# Altium schematic symbol library Inductors.SchLib: 11 symbols
Pins are listed as number, name and electrical type; pins without a type are passive.

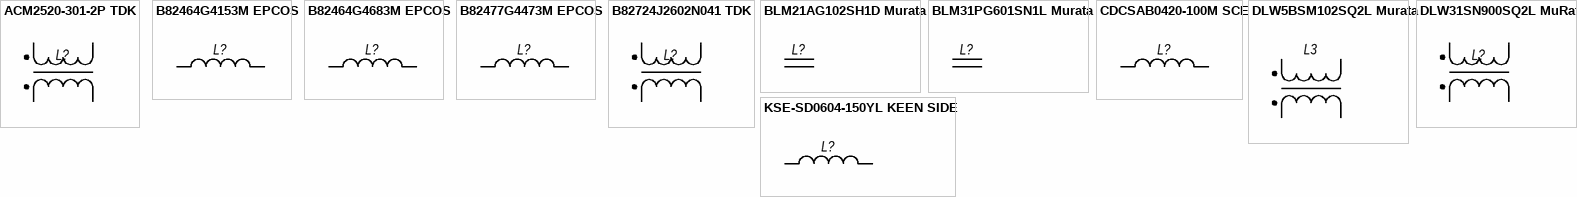
[diagram p0: symbols ACM2520-301-2P TDK to KSE-SD0604-150YL KEEN SIDE]

## ACM2520-301-2P TDK
designator L?  (value not drawn)
footprint ACM2520-2P
pins: 1, 2, 3, 4

## B82464G4153M EPCOS
designator L?, comment 15u  (value not drawn)
Катушка индуктивности SMD 15 мкГн, 2.75 А, 10х10
footprint IND_10x10mm
pins: 1, 2

## B82464G4683M EPCOS
designator L?, comment 68u  (value not drawn)
Катушка индуктивности SMD 68 мкГн, 1.3 А, 10х10
footprint IND_10x10mm
pins: 1, 2

## B82477G4473M EPCOS
designator L?, comment 47u  (value not drawn)
Катушка индуктивности SMD 47 мкГн, 2.5 А, 12х12
footprint IND_12X12MM
pins: 1, 2

## B82724J2602N041 TDK
designator L?  (value not drawn)
Дроссель синфазный 6A, 3.3mH, 25mOhm
footprint B82724J
pins: 1, 2, 3, 4

## BLM21AG102SH1D Murata
designator L?  (value not drawn)
ЭМИ фильтр 1кОм/100МГц, 500мА, 280мОм
footprint BLM21X
pins: 1, 2

## BLM31PG601SN1L Murata
designator L?  (value not drawn)
ЭМИ фильтр 600Ом/100МГц, 1500мА, 80мОм
footprint BLM31x
pins: 1, 2

## CDCSAB0420-100M SCE
designator L?, comment 10u  (value not drawn)
footprint IND_4.2x4.4MM
pins: 1, 2

## DLW5BSM102SQ2L Murata
designator L3  (value not drawn)
Дроссель синфазный 1кОм/100МГц 1.5A
footprint DLW5A/5B
pins: 1, 2, 3, 4

## DLW31SN900SQ2L MuRata
designator L?  (value not drawn)
footprint DLW31S
pins: 1, 2, 3, 4
1 alternate drawing of the same symbol

## KSE-SD0604-150YL KEEN SIDE
designator L?, comment 15u  (value not drawn)
Катушка индуктивности SMD 15 мкГн, 2А, D5.8MM
footprint IND_D_5.8MM
pins: 1, 2